# EAGLE library part ATMEGA328PB (library atmel)
8-bit AVR Microcontroller 32kbytes flash 2kbytes SRAM 1kbyte EEPROM USART 8-channel 10 bit ADC
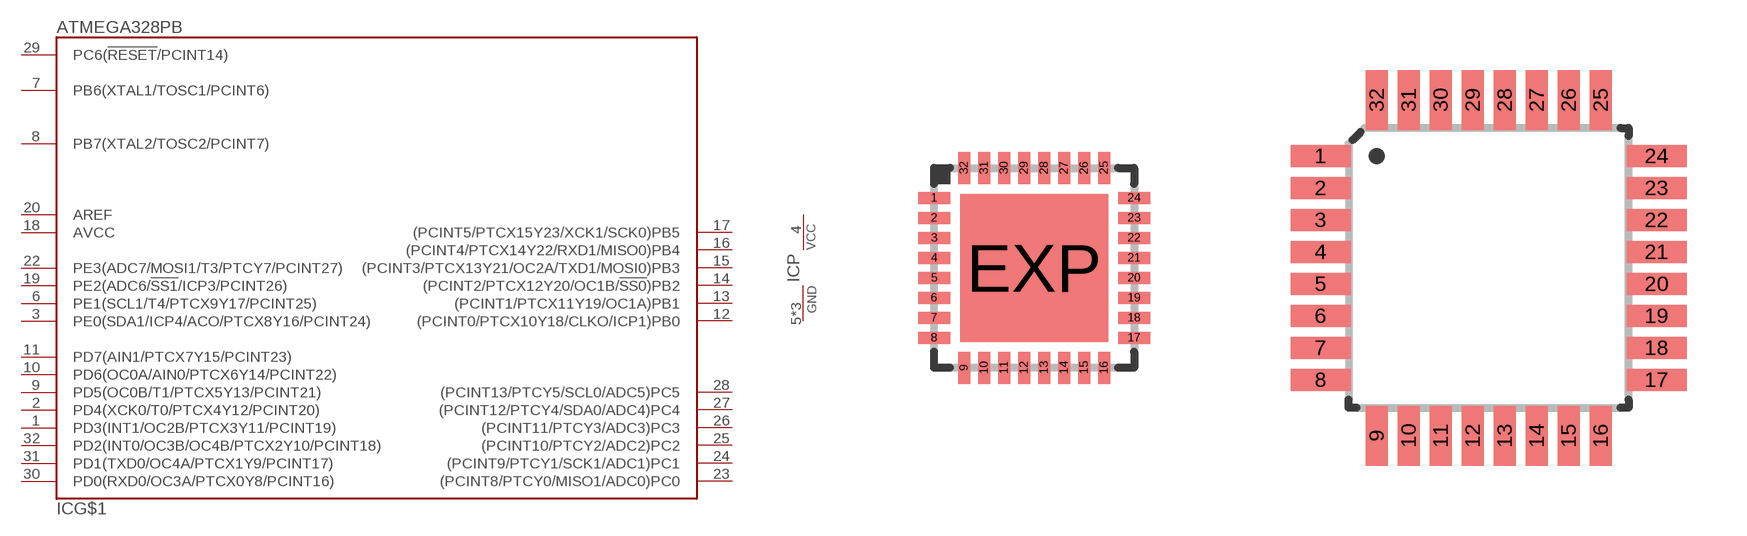
[diagram p32: symbol with the pads of QFN32_5X5_0.50; footprints QFN32_5X5_0.50, QFP32_7X7_0.80]

Designator prefix IC; gates G$1=MEGA328PB P=PWR

## ATMEGA328PB-MU  [QFN32_5X5_0.50]
1  G$1:PD3(INT1/OC2B/PTCX3Y11/PCINT19)
2  G$1:PD4(XCK0/T0/PTCX4Y12/PCINT20)
3  G$1:PE0(SDA1/ICP4/ACO/PTCX8Y16/PCINT24)
4  P:VCC  pwr
5  P:GND  pwr
6  G$1:PE1(SCL1/T4/PTCX9Y17/PCINT25)
7  G$1:PB6(XTAL1/TOSC1/PCINT6)
8  G$1:PB7(XTAL2/TOSC2/PCINT7)
9  G$1:PD5(OC0B/T1/PTCX5Y13/PCINT21)
10  G$1:PD6(OC0A/AIN0/PTCX6Y14/PCINT22)
11  G$1:PD7(AIN1/PTCX7Y15/PCINT23)
12  G$1:(PCINT0/PTCX10Y18/CLKO/ICP1)PB0
13  G$1:(PCINT1/PTCX11Y19/OC1A)PB1
14  G$1:(PCINT2/PTCX12Y20/OC1B/!SS0!)PB2
15  G$1:(PCINT3/PTCX13Y21/OC2A/TXD1/MOSI0)PB3
16  G$1:(PCINT4/PTCX14Y22/RXD1/MISO0)PB4
17  G$1:(PCINT5/PTCX15Y23/XCK1/SCK0)PB5
18  G$1:AVCC  pwr
19  G$1:PE2(ADC6/!SS1!/ICP3/PCINT26)
20  G$1:AREF  pas
21  P:GND  pwr
22  G$1:PE3(ADC7/MOSI1/T3/PTCY7/PCINT27)
23  G$1:(PCINT8/PTCY0/MISO1/ADC0)PC0
24  G$1:(PCINT9/PTCY1/SCK1/ADC1)PC1
25  G$1:(PCINT10/PTCY2/ADC2)PC2
26  G$1:(PCINT11/PTCY3/ADC3)PC3
27  G$1:(PCINT12/PTCY4/SDA0/ADC4)PC4
28  G$1:(PCINT13/PTCY5/SCL0/ADC5)PC5
29  G$1:PC6(!RESET!/PCINT14)
30  G$1:PD0(RXD0/OC3A/PTCX0Y8/PCINT16)
31  G$1:PD1(TXD0/OC4A/PTCX1Y9/PCINT17)
32  G$1:PD2(INT0/OC3B/OC4B/PTCX2Y10/PCINT18)
EXP  P:GND  pwr

## ATMEGA328PB-MN  [QFN32_5X5_0.50]
Pads as for QFN32_5X5_0.50

## ATMEGA328PB-AU  [QFP32_7X7_0.80]
1  G$1:PD3(INT1/OC2B/PTCX3Y11/PCINT19)
2  G$1:PD4(XCK0/T0/PTCX4Y12/PCINT20)
3  G$1:PE0(SDA1/ICP4/ACO/PTCX8Y16/PCINT24)
4  P:VCC  pwr
5  P:GND  pwr
6  G$1:PE1(SCL1/T4/PTCX9Y17/PCINT25)
7  G$1:PB6(XTAL1/TOSC1/PCINT6)
8  G$1:PB7(XTAL2/TOSC2/PCINT7)
9  G$1:PD5(OC0B/T1/PTCX5Y13/PCINT21)
10  G$1:PD6(OC0A/AIN0/PTCX6Y14/PCINT22)
11  G$1:PD7(AIN1/PTCX7Y15/PCINT23)
12  G$1:(PCINT0/PTCX10Y18/CLKO/ICP1)PB0
13  G$1:(PCINT1/PTCX11Y19/OC1A)PB1
14  G$1:(PCINT2/PTCX12Y20/OC1B/!SS0!)PB2
15  G$1:(PCINT3/PTCX13Y21/OC2A/TXD1/MOSI0)PB3
16  G$1:(PCINT4/PTCX14Y22/RXD1/MISO0)PB4
17  G$1:(PCINT5/PTCX15Y23/XCK1/SCK0)PB5
18  G$1:AVCC  pwr
19  G$1:PE2(ADC6/!SS1!/ICP3/PCINT26)
20  G$1:AREF  pas
21  P:GND  pwr
22  G$1:PE3(ADC7/MOSI1/T3/PTCY7/PCINT27)
23  G$1:(PCINT8/PTCY0/MISO1/ADC0)PC0
24  G$1:(PCINT9/PTCY1/SCK1/ADC1)PC1
25  G$1:(PCINT10/PTCY2/ADC2)PC2
26  G$1:(PCINT11/PTCY3/ADC3)PC3
27  G$1:(PCINT12/PTCY4/SDA0/ADC4)PC4
28  G$1:(PCINT13/PTCY5/SCL0/ADC5)PC5
29  G$1:PC6(!RESET!/PCINT14)
30  G$1:PD0(RXD0/OC3A/PTCX0Y8/PCINT16)
31  G$1:PD1(TXD0/OC4A/PTCX1Y9/PCINT17)
32  G$1:PD2(INT0/OC3B/OC4B/PTCX2Y10/PCINT18)

## ATMEGA328PB-AN  [QFP32_7X7_0.80]
Pads as for QFP32_7X7_0.80

## Footprint QFN32_5X5_0.50 (pad centres in mm)
32-Lead Plastic QFN, 5mm x 5mm body, 0.5mm lead pitch, exposed pad ATMEL Code: 32M1-A Micro Lead Frame package (MLF) NXP Code: SOT617
smd 0.8 x 0.3: 1 -2.5,1.75; 2 -2.5,1.25; 3 -2.5,0.75; 4 -2.5,0.25; 5 -2.5,-0.25; 6 -2.5,-0.75; 7 -2.5,-1.25; 8 -2.5,-1.75; 17 2.5,-1.75; 18 2.5,-1.25; 19 2.5,-0.75; 20 2.5,-0.25; 21 2.5,0.25; 22 2.5,0.75; 23 2.5,1.25; 24 2.5,1.75
smd 0.3 x 0.8: 9 -1.75,-2.5; 10 -1.25,-2.5; 11 -0.75,-2.5; 12 -0.25,-2.5; 13 0.25,-2.5; 14 0.75,-2.5; 15 1.25,-2.5; 16 1.75,-2.5; 25 1.75,2.5; 26 1.25,2.5; 27 0.75,2.5; 28 0.25,2.5; 29 -0.25,2.5; 30 -0.75,2.5; 31 -1.25,2.5; 32 -1.75,2.5
smd 3.7 x 3.7: EXP 0,0

## Footprint QFP32_7X7_0.80 (pad centres in mm)
Thin Plasic Quad Flat Package, 7mm x 7mm body, 0.80mm lead pitch JEDEC: MS-026 ABA ATMEL Code: 32A
smd 1.5 x 0.55: 1 -4.2,2.8; 2 -4.2,2; 3 -4.2,1.2; 4 -4.2,0.4; 5 -4.2,-0.4; 6 -4.2,-1.2; 7 -4.2,-2; 8 -4.2,-2.8; 17 4.2,-2.8; 18 4.2,-2; 19 4.2,-1.2; 20 4.2,-0.4; 21 4.2,0.4; 22 4.2,1.2; 23 4.2,2; 24 4.2,2.8
smd 0.55 x 1.5: 9 -2.8,-4.2; 10 -2,-4.2; 11 -1.2,-4.2; 12 -0.4,-4.2; 13 0.4,-4.2; 14 1.2,-4.2; 15 2,-4.2; 16 2.8,-4.2; 25 2.8,4.2; 26 2,4.2; 27 1.2,4.2; 28 0.4,4.2; 29 -0.4,4.2; 30 -1.2,4.2; 31 -2,4.2; 32 -2.8,4.2